# Altium footprint library Footprint.PcbLib: 97 footprints (part 7 of 7)
Each footprint in its own frame and in the unit in brackets; x right, y up, seen from the top. Pads: shape width x height; smd on the part's side, far side on the other; paste and mask are expansions set on the pad; w line width, h text height; cw(c..) or ccw(c..) is an arc to the next point about the centre after c.
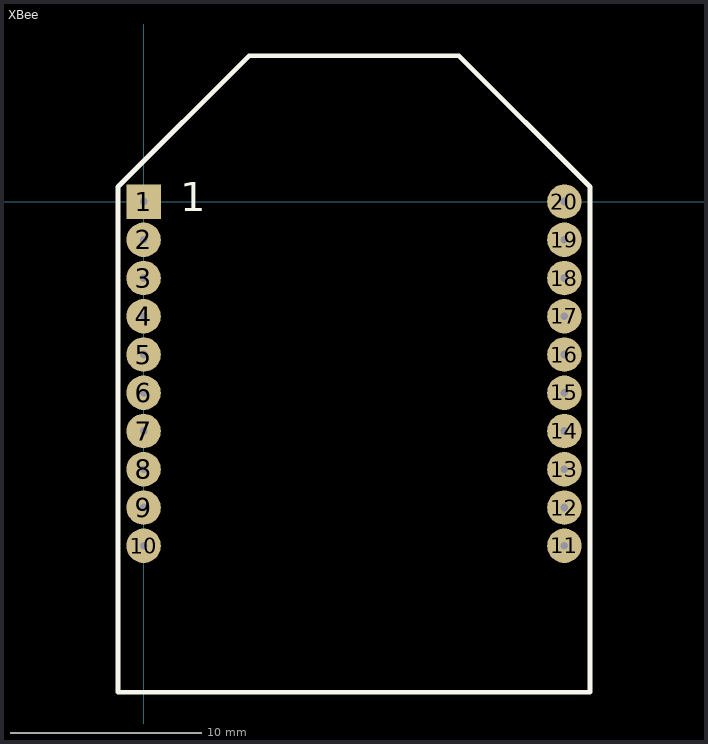
[diagram p6: the footprint, top view; thin cyan lines are the x and y axes]

## XBee [mm]
height 1.2
pads (20):
  rect 1.8x1.8 hole 0.4: 1(0,0)
  round 1.8 hole 0.4: 2(0,-2) 3(0,-4) 4(0,-6) 5(0,-8) 6(0,-10) 7(0,-12) 8(0,-14) 9(0,-16) 10(0,-18) 11(21.996,-18) 12(21.996,-16) 13(21.996,-14) 14(21.996,-12) 15(21.996,-10) 16(21.996,-8) 17(21.996,-6) 18(21.996,-4) 19(21.996,-2) 20(21.996,0)
Top Overlay:
  lines w0.254: -1.346,-25.654 23.343,-25.654 23.343,0.762 16.485,7.62 5.512,7.62 -1.346,0.762 -1.346,-25.654
  text "1" at 1.905,-0.508 h1.52